# Altium footprint library Connectors.PcbLib: 76 footprints (part 5 of 5)
Each footprint in its own frame and in the unit in brackets; x right, y up, seen from the top. Pads: shape width x height; smd on the part's side, far side on the other; paste and mask are expansions set on the pad; w line width, h text height; cw(c..) or ccw(c..) is an arc to the next point about the centre after c.
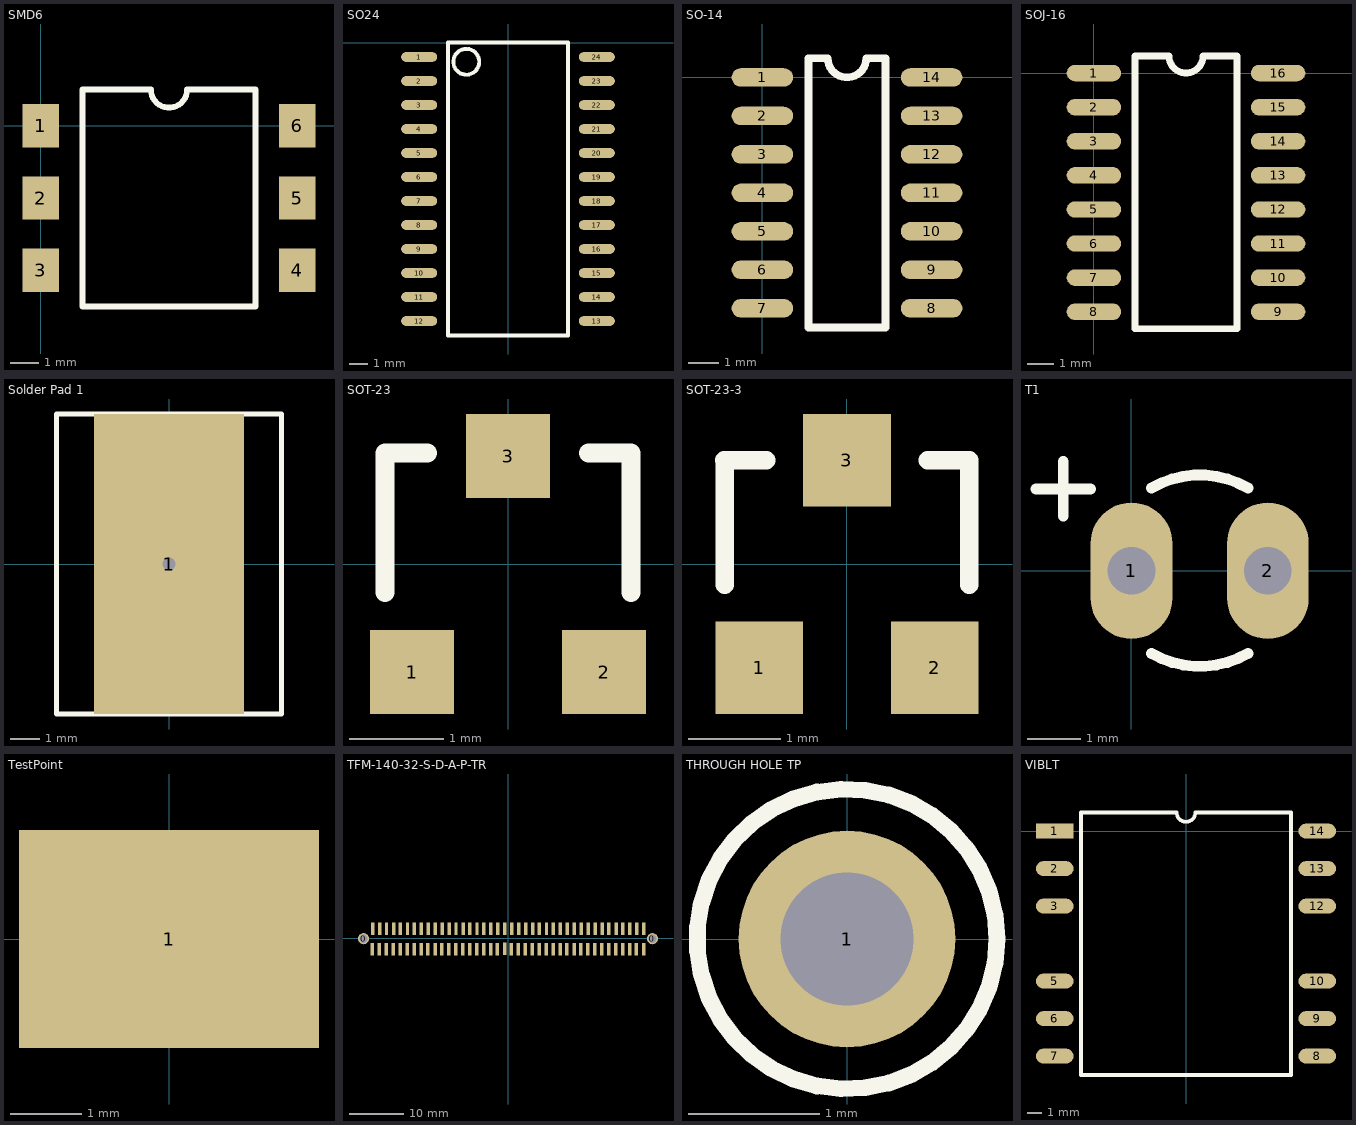
[diagram p4: the footprints below, top view; thin cyan lines are the x and y axes]

## SMD6 [mil]
pads (6):
  rect 50x60 smd: 1(0,0) 2(0,-100) 3(0,-200) 4(355,-200) 5(355,-100) 6(355,0)
Top Overlay:
  lines w8: 58,-250 58,50 152.5,50 ccw(c177.5,50) 202.5,50 297,50 297,-250 58,-250

## SO24 [mil] "SO24"
height 100
pads (24):
  oval 75x20 smd: 1(-185,-30) 2(-185,-80) 3(-185,-130) 4(-185,-180) 5(-185,-230) 6(-185,-280) 7(-185,-330) 8(-185,-380) 9(-185,-430) 10(-185,-480) 11(-185,-530) 12(-185,-580) 13(185,-580) 14(185,-530) 15(185,-480) 16(185,-430) 17(185,-380) 18(185,-330) 19(185,-280) 20(185,-230) 21(185,-180) 22(185,-130) 23(185,-80) 24(185,-30)
Top Overlay:
  circle w8: c-86.93,-40 r26.93
  lines w8: -125,-610 125,-610 125,0 -125,0 -125,-610

## SO-14 [mil]
pads (14):
  oval 80x24 smd: 1(0,0) 2(0,-50) 3(0,-100) 4(0,-150) 5(0,-200) 6(0,-250) 7(0,-300) 8(220,-300) 9(220,-250) 10(220,-200) 11(220,-150) 12(220,-100) 13(220,-50) 14(220,0)
Top Overlay:
  lines w10: 60,-325 60,25 85,25 ccw(c110,25) 135,25 160,25 160,-325 60,-325

## SOJ-16 [mil]
pads (16):
  oval 80x24 smd: 1(0,0) 2(0,-50) 3(0,-100) 4(0,-150) 5(0,-200) 6(0,-250) 7(0,-300) 8(0,-350) 9(270,-350) 10(270,-300) 11(270,-250) 12(270,-200) 13(270,-150) 14(270,-100) 15(270,-50) 16(270,0)
Top Overlay:
  lines w10: 60,-375 210,-375 210,25 160,25 cw(c135,25) 110,25 60,25 60,-375

## Solder Pad 1 [mil]
pads (1):
  rect 200x400 hole 17: 1(0,0)
Top Overlay:
  lines w7: -150,-200 -150,200 150,200 150,-200 -150,-200

## SOT-23 [mil]
height 40
pads (3):
  rect 35x35 smd: 1(-40,-45) 2(40,-45) 3(0,45)
Top Overlay:
  lines w7.87: -51.18,-11.81 -51.18,46.26 -33.46,46.26 ; 33.47,46.26 51.18,46.26 51.18,-11.81

## SOT-23-3 [mm]
pads (3):
  rect 0.95x1 smd: 1(-0.95,-1.125) 2(0.95,-1.125) 3(0,1.125)
Top Overlay:
  lines w0.2: -1.328,1.125 -0.875,1.125 ; -1.325,-0.225 -1.325,1.125 ; 0.875,1.125 1.325,1.125 1.325,-0.225

## T1 [mil]
pads (2):
  oval 60x100 / inner round 35 / far side oval 60x100 hole 35: 1(0,0) 2(100,0)
Top Overlay:
  lines w8: -70,60 -30,60 ; -50,40 -50,80 ; 14.64,-60.62 ccw(c50,0) 85.36,-60.62 ; 14.64,60.62 cw(c50,0) 85.36,60.62

## TestPoint [mil]
pads (1):
  rect 165x120 smd: 1(0,0)
3D body: height 93.55, standoff 3, extent -74,-55 75.61,55.24

## TFM-140-32-S-D-A-P-TR [mil]
pads (82):
  round 80 hole 60: 0(-1039,-2) 0(1039,-2)
  rect 25x90 smd: 1(975,-76) 2(977,68) 3(924,-76) 4(926,68) 5(875,-76) 6(877,68) 7(824,-76) 8(826,68) 9(775,-76) 10(777,68) 11(724,-76) 12(726,68) 13(675,-76) 14(677,68) 15(624,-76) 16(626,68) 17(575,-76) 18(577,68) 19(524,-76) 20(526,68) 21(475,-76) 22(477,68) 23(424,-76) 24(426,68) 25(375,-76) 26(377,68) 27(324,-76) 28(326,68) 29(275,-76) 30(277,68) 31(224,-76) 32(226,68) 33(175,-76) 34(177,68) 35(124,-76) 36(126,68) 37(75,-76) 38(77,68) 39(24,-76) 40(26,68) 41(-25,-75) 42(-23,68) 43(-76,-76) 44(-74,68) 45(-125,-76) 46(-123,68) 47(-176,-76) 48(-174,68) 49(-225,-76) 50(-223,68) 51(-276,-76) 52(-274,68) 53(-325,-76) 54(-323,68) 55(-376,-76) 56(-374,68) 57(-425,-76) 58(-423,68) 59(-476,-76) 60(-474,68) 61(-525,-76) 62(-523,68) 63(-576,-76) 64(-574,68) 65(-625,-76) 66(-623,68) 67(-676,-76) 68(-674,68) 69(-725,-76) 70(-723,68) 71(-776,-76) 72(-774,68) 73(-825,-76) 74(-823,68) 75(-876,-76) 76(-874,68) 77(-925,-76) 78(-923,68) 79(-976,-76) 80(-974,68)
3D body: height 220, standoff -50, extent -1063.5,-115 1061.5,110

## THROUGH HOLE TP [mil]
pads (1):
  round 65 hole 40: 1(0,0)
Top Overlay:
  circle w5: c0,0 r45

## VIBLT [mil]
pads (12):
  rect 100x40 smd: 1(-350,0)
  oval 100x40 smd: 2(-350,-100) 3(-350,-200) 5(-350,-400) 6(-350,-500) 7(-350,-600) 8(350,-600) 9(350,-500) 10(350,-400) 12(350,-200) 13(350,-100) 14(350,0)
Top Overlay:
  lines w10: -280,-650 280,-650 280,50 25,50 cw(c0,50) -25,50 -280,50 -280,-650